# EAGLE library part USD-SOCKET (library reclone-rise)
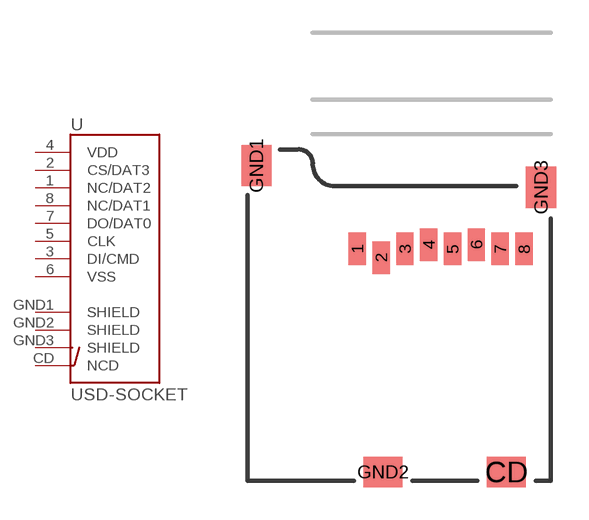
[diagram p15: symbol with the pads of MICRO-SD-SOCKET-PP; footprint MICRO-SD-SOCKET-PP]

Designator prefix -

## USD-SOCKET  [MICRO-SD-SOCKET-PP]
1  NC/DAT2
2  CS/DAT3
3  DI/CMD
4  VDD
5  CLK
6  VSS
7  DO/DAT0
8  NC/DAT1
CD  NCD
GND1  SHIELD
GND2  SHIELD
GND3  SHIELD

## Footprint MICRO-SD-SOCKET-PP (pad centres in mm)
smd 0.8 x 1.5: 1 -3.44,-5.3; 2 -2.34,-5.7; 3 -1.24,-5.3; 4 -0.14,-5.1; 5 0.96,-5.3; 6 2.06,-5.1; 7 3.16,-5.3; 8 4.26,-5.3
smd 1.8 x 1.4: CD 3.45,-15.6; GND2 -2.25,-15.6
smd 1.4 x 1.9: GND1 -8.1,-1.45; GND3 5.05,-2.45